# Altium footprint library Interface - Controllers.PcbLib: 1 footprints
Each footprint in its own frame and in the unit in brackets; x right, y up, seen from the top. Pads: shape width x height; smd on the part's side, far side on the other; paste and mask are expansions set on the pad; w line width, h text height; cw(c..) or ccw(c..) is an arc to the next point about the centre after c.
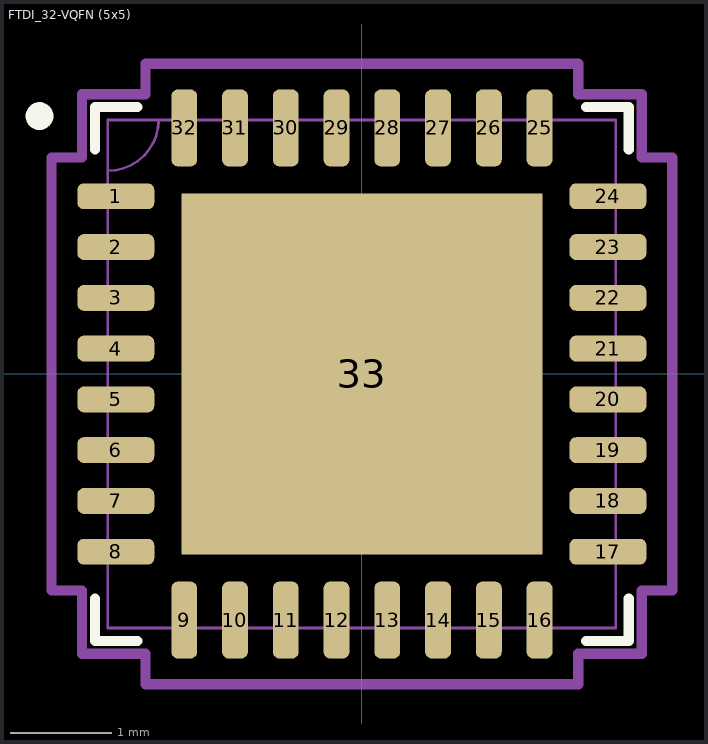
[diagram p0: the footprint, top view; thin cyan lines are the x and y axes]

## FTDI_32-VQFN (5x5) [mm]
pads (33):
  rrect50% 0.757x0.255 smd mask+0.04: 1(-2.423,1.75) 2(-2.423,1.25) 3(-2.423,0.75) 4(-2.423,0.25) 5(-2.423,-0.25) 6(-2.423,-0.75) 7(-2.423,-1.25) 8(-2.423,-1.75) 17(2.423,-1.75) 18(2.423,-1.25) 19(2.423,-0.75) 20(2.423,-0.25) 21(2.423,0.25) 22(2.423,0.75) 23(2.423,1.25) 24(2.423,1.75)
  rrect50% 0.255x0.757 smd mask+0.04: 9(-1.75,-2.423) 10(-1.25,-2.423) 11(-0.75,-2.423) 12(-0.25,-2.423) 13(0.25,-2.423) 14(0.75,-2.423) 15(1.25,-2.423) 16(1.75,-2.423) 25(1.75,2.423) 26(1.25,2.423) 27(0.75,2.423) 28(0.25,2.423) 29(-0.25,2.423) 30(-0.75,2.423) 31(-1.25,2.423) 32(-1.75,2.423)
  rect 3.556x3.556 smd paste-1.765 mask+0.04: 33(0,0)
Top Overlay:
  circle w0.2: c-3.175,2.54 r0.036
  lines w0.1: -2.629,-2.21 -2.629,-2.629 -2.21,-2.629 ; -2.629,2.21 -2.629,2.629 -2.21,2.629 ; 2.21,-2.629 2.629,-2.629 2.629,-2.21 ; 2.21,2.629 2.629,2.629 2.629,2.21
Top Paste:
  region: -0.1,1.678 -1.678,1.678 -1.678,0.1 -0.1,0.1
  region: -0.1,-0.1 -1.678,-0.1 -1.678,-1.678 -0.1,-1.678
  region: 1.678,1.678 0.1,1.678 0.1,0.1 1.678,0.1
  region: 1.678,-0.1 0.1,-0.1 0.1,-1.678 1.678,-1.678
Mechanical 13:
  lines w0.025: -2.502,2.002 ccw(c-2.502,2.502) -2.002,2.502 ; -2.502,-2.502 2.502,-2.502 2.502,2.502 -2.502,2.502 -2.502,-2.502 ; -2.502,-1.902 -2.502,-1.598 -2.502,-1.902 ; -2.502,-1.402 -2.502,-1.098 -2.502,-1.402 ; -2.502,-0.902 -2.502,-0.598 -2.502,-0.902 ; -2.502,-0.402 -2.502,-0.098 -2.502,-0.402 ; -2.502,0.098 -2.502,0.402 -2.502,0.098 ; -2.502,0.598 -2.502,0.902 -2.502,0.598 ; -2.502,1.098 -2.502,1.402 -2.502,1.098 ; -2.502,1.598 -2.502,1.902 -2.502,1.598 ; -1.902,-2.502 -1.598,-2.502 -1.902,-2.502 ; -1.902,2.502 -1.598,2.502 -1.902,2.502 ; -1.402,-2.502 -1.098,-2.502 -1.402,-2.502 ; -1.402,2.502 -1.098,2.502 -1.402,2.502 ; -0.902,-2.502 -0.598,-2.502 -0.902,-2.502 ; -0.902,2.502 -0.598,2.502 -0.902,2.502 ; -0.402,-2.502 -0.098,-2.502 -0.402,-2.502 ; -0.402,2.502 -0.098,2.502 -0.402,2.502 ; 0.098,-2.502 0.402,-2.502 0.098,-2.502 ; 0.098,2.502 0.402,2.502 0.098,2.502 ; 0.598,-2.502 0.902,-2.502 0.598,-2.502 ; 0.598,2.502 0.902,2.502 0.598,2.502 ; 1.098,-2.502 1.402,-2.502 1.098,-2.502 ; 1.098,2.502 1.402,2.502 1.098,2.502 ; 1.598,-2.502 1.902,-2.502 1.598,-2.502 ; 1.598,2.502 1.902,2.502 1.598,2.502 ; 2.502,-1.902 2.502,-1.598 2.502,-1.902 ; 2.502,-1.402 2.502,-1.098 2.502,-1.402 ; 2.502,-0.902 2.502,-0.598 2.502,-0.902 ; 2.502,-0.402 2.502,-0.098 2.502,-0.402 ; 2.502,0.098 2.502,0.402 2.502,0.098 ; 2.502,0.598 2.502,0.902 2.502,0.598 ; 2.502,1.098 2.502,1.402 2.502,1.098 ; 2.502,1.598 2.502,1.902 2.502,1.598
Mechanical 15:
  lines w0.1: -3.056,-2.131 -2.756,-2.131 -2.756,-2.756 -2.131,-2.756 -2.131,-3.056 2.131,-3.056 2.131,-2.756 2.756,-2.756 2.756,-2.131 3.056,-2.131 3.056,2.131 2.756,2.131 2.756,2.756 2.131,2.756 2.131,3.056 -2.131,3.056 -2.131,2.756 -2.756,2.756 -2.756,2.131 -3.056,2.131 -3.056,-2.131
3D body: height 0.25, standoff 0, extent 0,0 0.254,0.254
3D body "VQFN-32_5X5_FTD.step": height 1.65, standoff 0, extent -2.502,-2.502 2.502,2.502